# Altium footprint library P9221.PcbLib: 1 footprints
Each footprint in its own frame and in the unit in brackets; x right, y up, seen from the top. Pads: shape width x height; smd on the part's side, far side on the other; paste and mask are expansions set on the pad; w line width, h text height; cw(c..) or ccw(c..) is an arc to the next point about the centre after c.
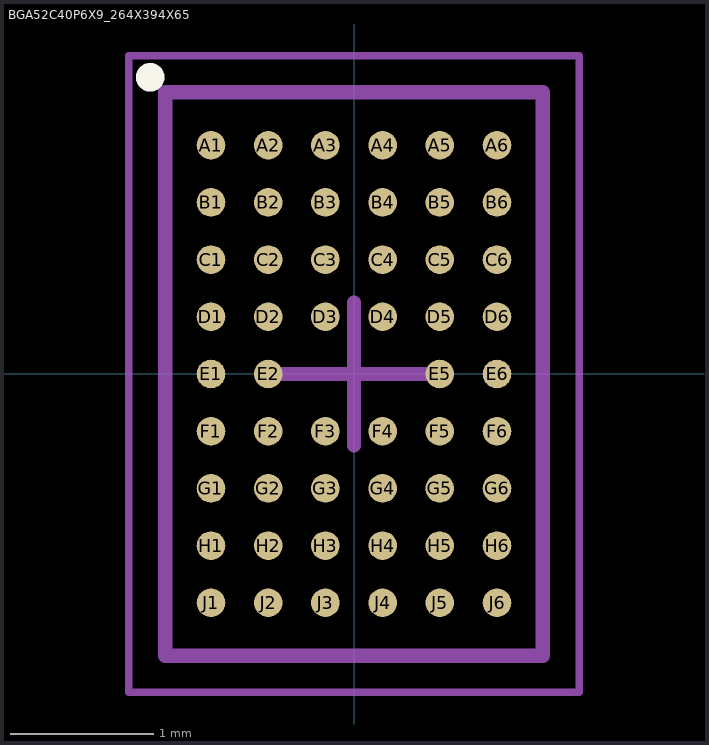
[diagram p0: the footprint, top view; thin cyan lines are the x and y axes]

## BGA52C40P6X9_264X394X65 [mm] "BGA, 52-Leads, Body 2.64x3.94mmx0.65mm, Pitch 0.40mm"
height 0.65
pads (52):
  round 0.2 smd: A1(-1,1.6) A2(-0.6,1.6) A3(-0.2,1.6) A4(0.2,1.6) A5(0.6,1.6) A6(1,1.6) B1(-1,1.2) B2(-0.6,1.2) B3(-0.2,1.2) B4(0.2,1.2) B5(0.6,1.2) B6(1,1.2) C1(-1,0.8) C2(-0.6,0.8) C3(-0.2,0.8) C4(0.2,0.8) C5(0.6,0.8) C6(1,0.8) D1(-1,0.4) D2(-0.6,0.4) D3(-0.2,0.4) D4(0.2,0.4) D5(0.6,0.4) D6(1,0.4) E1(-1,0) E2(-0.6,0) E5(0.6,0) E6(1,0) F1(-1,-0.4) F2(-0.6,-0.4) F3(-0.2,-0.4) F4(0.2,-0.4) F5(0.6,-0.4) F6(1,-0.4) G1(-1,-0.8) G2(-0.6,-0.8) G3(-0.2,-0.8) G4(0.2,-0.8) G5(0.6,-0.8) G6(1,-0.8) H1(-1,-1.2) H2(-0.6,-1.2) H3(-0.2,-1.2) H4(0.2,-1.2) H5(0.6,-1.2) H6(1,-1.2) J1(-1,-1.6) J2(-0.6,-1.6) J3(-0.2,-1.6) J4(0.2,-1.6) J5(0.6,-1.6) J6(1,-1.6)
Top Overlay:
  circle w0.1: c-1.425,2.075 r0.05
Mechanical 13:
  lines w0.1: -1.32,-1.97 1.32,-1.97 1.32,1.97 -1.32,1.97 -1.32,-1.97
Mechanical 15:
  lines w0.05: -1.575,-2.225 1.575,-2.225 1.575,2.225 -1.575,2.225 -1.575,-2.225
  lines w0.1: -0.5,0 0.5,0 ; 0,-0.5 0,0.5
3D body: height 0.65, standoff 0.3, extent -1.32,-1.97 1.32,1.97